# EAGLE library part PINHD-1X8 (library pinhead-new)
PIN HEADER
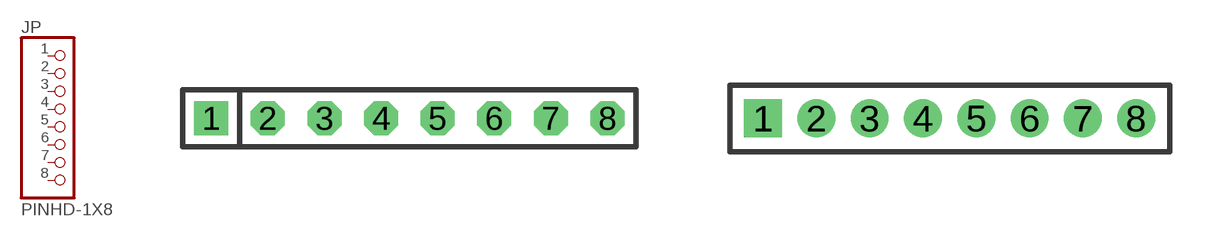
[diagram p0: symbol with the pads of 1X08; footprints 1X08, 1X08M]

Designator prefix JP

## PINHD-1X8  [1X08]
1  1  pas
2  2  pas
3  3  pas
4  4  pas
5  5  pas
6  6  pas
7  7  pas
8  8  pas

## PINHD-1X8M  [1X08M]
Pads as for 1X08

## Footprint 1X08 (pad centres in mm)
PIN HEADER - 0.1"
drill 1.016 square: 1 -8.89,0
drill 1.016 octagon: 2 -6.35,0; 3 -3.81,0; 4 -1.27,0; 5 1.27,0; 6 3.81,0; 7 6.35,0; 8 8.89,0

## Footprint 1X08M (pad centres in mm)
PIN HEADER - 2MM"
drill 0.914 square: 1 -7,0
drill 0.914 round: 2 -5,0; 3 -3,0; 4 -1,0; 5 1,0; 6 3,0; 7 5,0; 8 7,0